# EAGLE library part ADAFRUIT9-DOFBREAKOUT (library 1Nico)
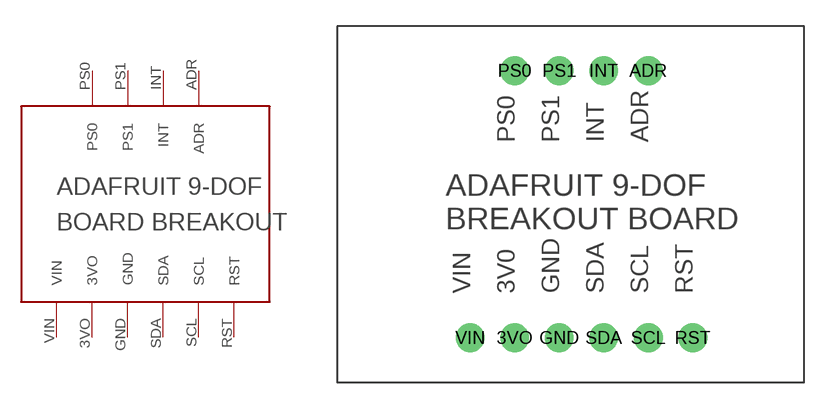
[diagram p1: symbol with the pads of NXP_ADAFRUIT; footprint NXP_ADAFRUIT]

Designator prefix -

## ADAFRUIT9-DOFBREAKOUT  [NXP_ADAFRUIT]
3VO  3VO
ADR  ADR
GND  GND
INT  INT
PS0  PS0
PS1  PS1
RST  RST
SCL  SCL
SDA  SDA
VIN  VIN

## Footprint NXP_ADAFRUIT (pad centres in mm)
drill 1.1: 3VO 10.14,2.54; ADR 17.76,17.78; GND 12.68,2.54; INT 15.22,17.78; PS0 10.14,17.78; PS1 12.68,17.78; RST 20.3,2.54; SCL 17.76,2.54; SDA 15.22,2.54; VIN 7.6,2.54